# Altium footprint library QCW_GDT_PCB.PcbLib: 28 footprints (part 2 of 2)
Each footprint in its own frame and in the unit in brackets; x right, y up, seen from the top. Pads: shape width x height; smd on the part's side, far side on the other; paste and mask are expansions set on the pad; w line width, h text height; cw(c..) or ccw(c..) is an arc to the next point about the centre after c.
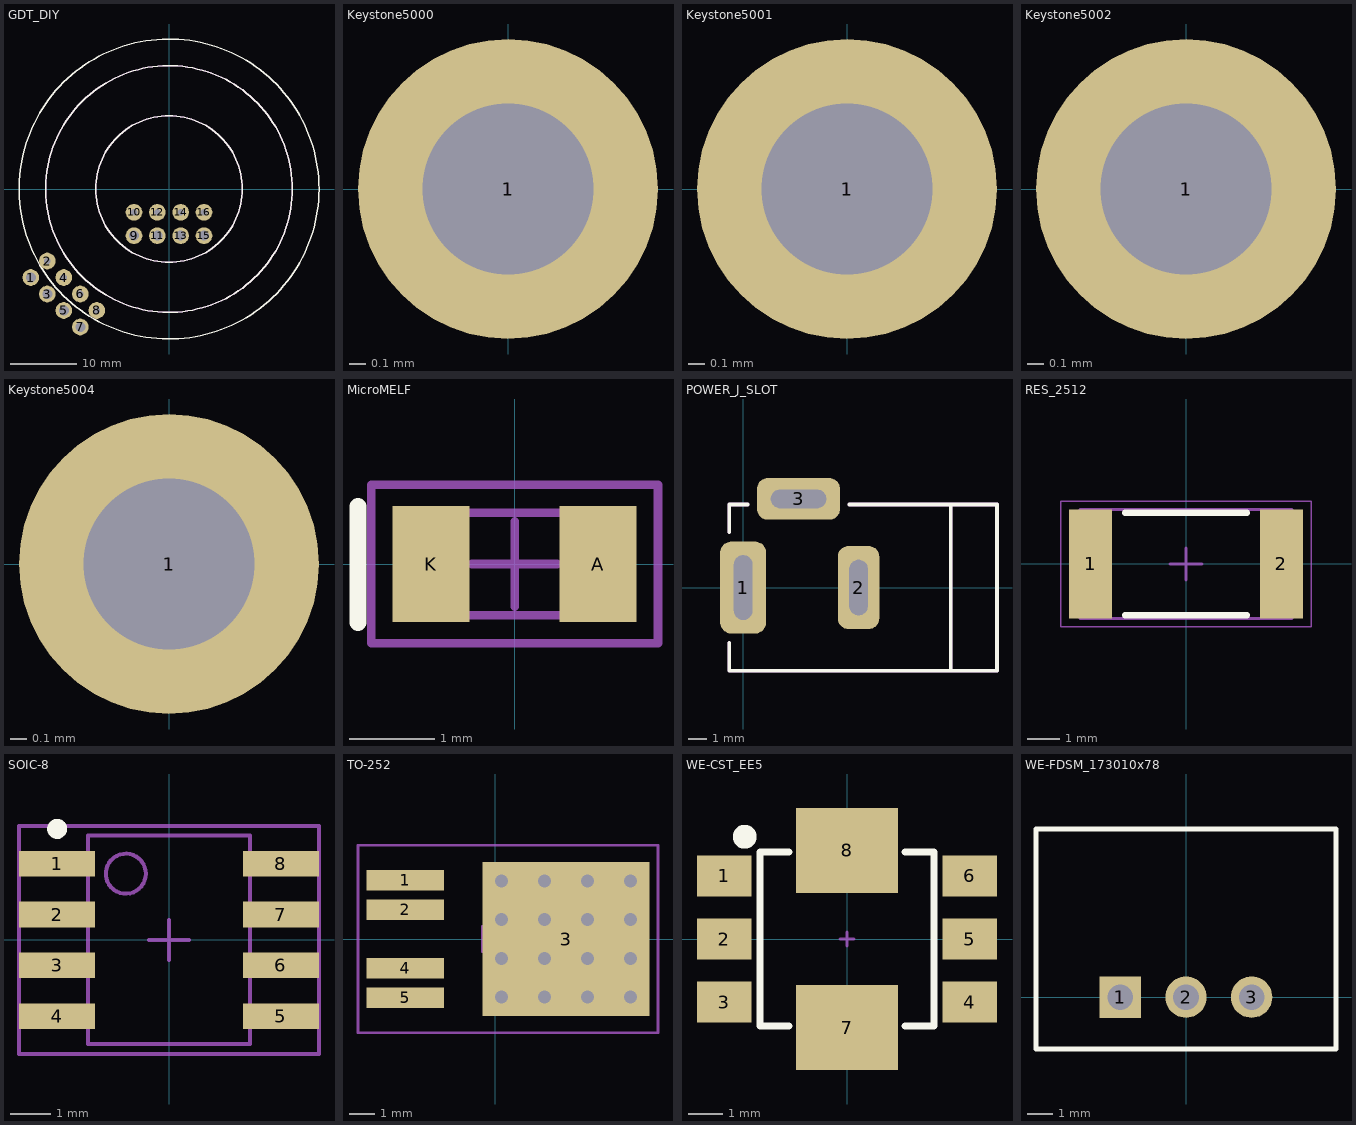
[diagram p1: the footprints below, top view; thin cyan lines are the x and y axes]

## GDT_DIY [mm]
pads (16):
  round 2.5 hole 1.5: 1(-20.725,-13.275) 3(-18.25,-15.75) 5(-15.775,-18.225) 7(-13.3,-20.7) 9(-5.25,-7) 11(-1.75,-7) 13(1.75,-7) 15(5.25,-7)
  round 2.5 hole 1: 2(-18.25,-10.8) 4(-15.775,-13.275) 6(-13.3,-15.75) 8(-10.825,-18.225) 10(-5.25,-3.5) 12(-1.75,-3.5) 14(1.75,-3.5) 16(5.25,-3.5)
Top Overlay:
  circle w0.2: c0,0 r11
  circle w0.2: c0,0 r18.5
  circle w0.2: c0,0 r22.5
Mechanical 13:
  circle w0.2: c0,0 r18.5
  circle w0.2: c0,0 r11
3D body: height 14, standoff 0, extent -18.5,-18.5 18.5,18.5

## Keystone5000 [mil]
pads (1):
  round 70 hole 40: 1(0,0)
3D body "User Library-Test Point Keystone - 5000 RED.STEP": height 179.92, standoff -120.08, extent -50,-50 50,50

## Keystone5001 [mil]
pads (1):
  round 70 hole 40: 1(0,0)
3D body "User Library-Test Point Keystone - 5001 BLACK.STEP": height 179.92, standoff -120.08, extent -50,-50 50,50

## Keystone5002 [mil]
pads (1):
  round 70 hole 40: 1(0,0)
3D body "User Library-Test Point Keystone - 5002 WHITE.STEP": height 179.92, standoff -120.08, extent -50,-50 50,50

## Keystone5004 [mil]
pads (1):
  round 70 hole 40: 1(0,0)
3D body "User Library-Test Point Keystone - 5004 YELLOW.STEP": height 179.92, standoff -120.08, extent -50,-50 50,50

## MicroMELF [mm]
pads (2):
  rect 0.9x1.35 smd: A(0.975,0) K(-0.975,0)
Top Overlay:
  lines w0.2: -1.83,-0.68 -1.83,0.67
Mechanical 13:
  rectangle: -1,-0.6 -0.731,0.6
  lines w0.1: -1,-0.6 1,-0.6 1,0.6 -1,0.6 -1,-0.6
Mechanical 15:
  lines w0.1: -0.5,0 0.5,0 ; 0,-0.5 0,0.5 ; -1.675,-0.925 1.675,-0.925 1.675,0.925 -1.675,0.925 -1.675,-0.925
3D body "User Library-MicroMelf.step": height 1.13, standoff -0.01, extent -0.965,-0.572 0.965,0.572

## POWER_J_SLOT [mm]
pads (3):
  rrect50% 2.5x5 hole 1 slot 3.5 at 90 deg: 1(0,0)
  rrect50% 2.25x4.5 hole 1 slot 3 at 90 deg: 2(6.25,0)
  rrect50% 4.5x2.25 hole 1 slot 3 at 0 deg: 3(3,4.8)
Top Overlay:
  lines w0.2: -0.75,-3 -0.75,-4.5 13.75,-4.5 13.75,4.5 5.75,4.5 ; -0.75,3 -0.75,4.5 0.25,4.5 ; 11.25,-4.5 11.25,4.5
Mechanical 9:
  lines w0.2: -0.75,-3 -0.75,-4.5 13.75,-4.5 13.75,4.5 5.75,4.5 ; -0.75,3 -0.75,4.5 0.25,4.5 ; 11.25,-4.5 11.25,4.5
  text ".Designator" at 1.25,-3.75 h1.27
3D body "User Library-RAPC722X.step": height 11.01, standoff -3.39, extent -1.2,-4.5 13.775,5

## RES_2512 [mm]
pads (2):
  rect 1.35x3.4 smd: 1(-2.975,0) 2(2.975,0)
Top Overlay:
  lines w0.2: -1.9,-1.6 1.9,-1.6 ; -1.9,1.6 1.9,1.6
Mechanical 13:
  lines w0.1: -3.3,-1.7 3.3,-1.7 3.3,1.7 -3.3,1.7 -3.3,-1.7
Mechanical 15:
  lines w0.05: -3.9,-1.95 3.9,-1.95 3.9,1.95 -3.9,1.95 -3.9,-1.95
  lines w0.1: -0.5,0 0.5,0 ; 0,-0.5 0,0.5
3D body: height 0.7, standoff 0, extent 2.7,-1.7 3.3,1.7
3D body: height 0.7, standoff 0, extent -3.3,-1.7 -2.7,1.7
3D body: height 0.7, standoff 0, extent -2.7,-1.7 2.7,1.7

## SOIC-8 [mm]
pads (8):
  rect 1.9x0.64 smd: 1(-2.795,1.905) 2(-2.795,0.635) 3(-2.795,-0.635) 4(-2.795,-1.905) 5(2.795,-1.905) 6(2.795,-0.635) 7(2.795,0.635) 8(2.795,1.905)
Top Overlay:
  circle w0.25: c-2.795,2.775 r0.125
Mechanical 13:
  circle w0.1: c-1.08,1.655 r0.5
  lines w0.1: -0.5,0 0.5,0 ; 0,-0.5 0,0.5 ; -3.75,-2.85 3.75,-2.85 3.75,2.85 -3.75,2.85 -3.75,-2.85 ; -2.03,-2.605 2.03,-2.605 2.03,2.605 -2.03,2.605 -2.03,-2.605
3D body "User Library-SOIC-8-1.step": height 1.75, standoff 0, extent -3.054,-2.447 2.946,2.452

## TO-252 [mm]
pads (5):
  rect 3x0.8 smd: 1(-3.5,2.28) 2(-3.5,1.14) 4(-3.5,-1.14) 5(-3.5,-2.28)
  rect 6.5x6 smd: 3(2.75,0)
via 0.25,2.25 diameter 1.016 hole 0.508
via 0.25,-2.25 diameter 1.016 hole 0.508
via 1.917,-2.25 diameter 1.016 hole 0.508
via 3.583,-2.25 diameter 1.016 hole 0.508
via 5.25,-2.25 diameter 1.016 hole 0.508
via 0.25,-0.75 diameter 1.016 hole 0.508
via 1.917,-0.75 diameter 1.016 hole 0.508
via 3.583,-0.75 diameter 1.016 hole 0.508
via 5.25,-0.75 diameter 1.016 hole 0.508
via 0.25,0.75 diameter 1.016 hole 0.508
via 1.917,0.75 diameter 1.016 hole 0.508
via 3.583,0.75 diameter 1.016 hole 0.508
via 5.25,0.75 diameter 1.016 hole 0.508
via 5.25,2.25 diameter 1.016 hole 0.508
via 3.583,2.25 diameter 1.016 hole 0.508
via 1.917,2.25 diameter 1.016 hole 0.508
Mechanical 15:
  lines w0.1: -0.5,-0.5 -0.5,0.5 ; -0.5,0 0.5,0 ; -5.334,-3.65 6.325,-3.65 6.325,3.65 -5.334,3.65 -5.334,-3.65
3D body "SW3dPS-PG-TO252-5-11-1.STEP": height 2.3, standoff 0, extent -4.442,-3.25 5.458,3.25

## WE-CST_EE5 [mm]
pads (8):
  rect 1.6x1.2 smd: 1(-3.6,1.85) 2(-3.6,0) 3(-3.6,-1.85) 4(3.6,-1.85) 5(3.6,0) 6(3.6,1.85)
  rect 3x2.5 smd: 7(0,-2.6) 8(0,2.6)
Top Overlay:
  circle w0.5: c-3,3 r0.1
  lines w0.2: -1.7,-2.55 -2.55,-2.55 -2.55,2.55 -1.7,2.55 ; 1.7,-2.55 2.55,-2.55 2.55,2.55 1.7,2.55
Mechanical 15:
  lines w0.1: -0.2,0 0.2,0 ; 0,-0.2 0,0.2
3D body "UtCST_749251125.stp": height 5.34, standoff 0.01, extent -3.85,-3.45 3.85,3.45

## WE-FDSM_173010x78 [mm]
pads (3):
  rect 1.6x1.6 hole 1: 1(-2.54,0)
  round 1.6 hole 1: 2(0,0) 3(2.54,0)
Top Overlay:
  lines w0.2: -5.8,-2 -5.8,6.5 5.8,6.5 5.8,-2 -5.8,-2
Mechanical 15:
  lines w0.1: -0.5,0 0.5,0 ; 0,-0.5 0,0.5
3D body "173xxxx78.stp": height 10.6, standoff -3.9, extent -5.8,-2 5.8,6.5